# EAGLE library part 74XX-EU_74*1G10 (library mainboardv1.2)
3-input NAND gate
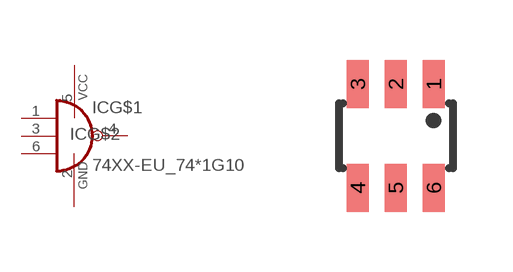
[diagram p0: symbol with the pads of 74XX-EU_SOT23-6; footprint 74XX-EU_SOT23-6]

Designator prefix IC; gates G$1=74XX-EU_7412 G$2=74XX-EU_PWRN-1

## 74XX-EU_741G10  [74XX-EU_SOT23-6]
1  G$1:I0  in
2  G$2:GND  pwr
3  G$1:I1  in
4  G$1:O  oc
5  G$2:VCC  pwr
6  G$1:I2  in

## Footprint 74XX-EU_SOT23-6 (pad centres in mm)
smd 0.55 x 1.2: 1 0.95,1.3; 2 0,1.3; 3 -0.95,1.3; 4 -0.95,-1.3; 5 0,-1.3; 6 0.95,-1.3